# EAGLE library part 691311700107 (library Terminal Blocks)
5.00MM CLOSE VERTICAL PCB HEADER WR-TBL Manufacturer's datasheet <https://katalog.we-online.com/em/datasheet/6913117001xx.pdf>
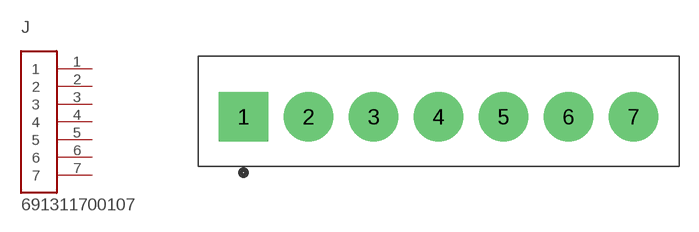
[diagram p3: symbol with the pads of TERMINALBLOCK_PLUGGABLE-7-5MM; footprint TERMINALBLOCK_PLUGGABLE-7-5MM]

Designator prefix J

## 691311700107 (CREATED_BY: PCBLayout.com; MANUFACTURER: WURTH ELEKTRONIK; MPN: 691311700107)  [TERMINALBLOCK_PLUGGABLE-7-5MM]
1  1  pas
2  2  pas
3  3  pas
4  4  pas
5  5  pas
6  6  pas
7  7  pas

## Footprint TERMINALBLOCK_PLUGGABLE-7-5MM (pad centres in mm)
drill 1.6 pad 3.81 square: 1 -15,0
drill 1.6 pad 3.81: 2 -10,0; 3 -5,0; 4 0,0; 5 5,0; 6 10,0; 7 15,0